# Altium footprint library Terminal_Blocks_Rising Case Clamp PCB_5mm.PcbLib: 8 footprints
Each footprint in its own frame and in the unit in brackets; x right, y up, seen from the top. Pads: shape width x height; smd on the part's side, far side on the other; paste and mask are expansions set on the pad; w line width, h text height; cw(c..) or ccw(c..) is an arc to the next point about the centre after c.
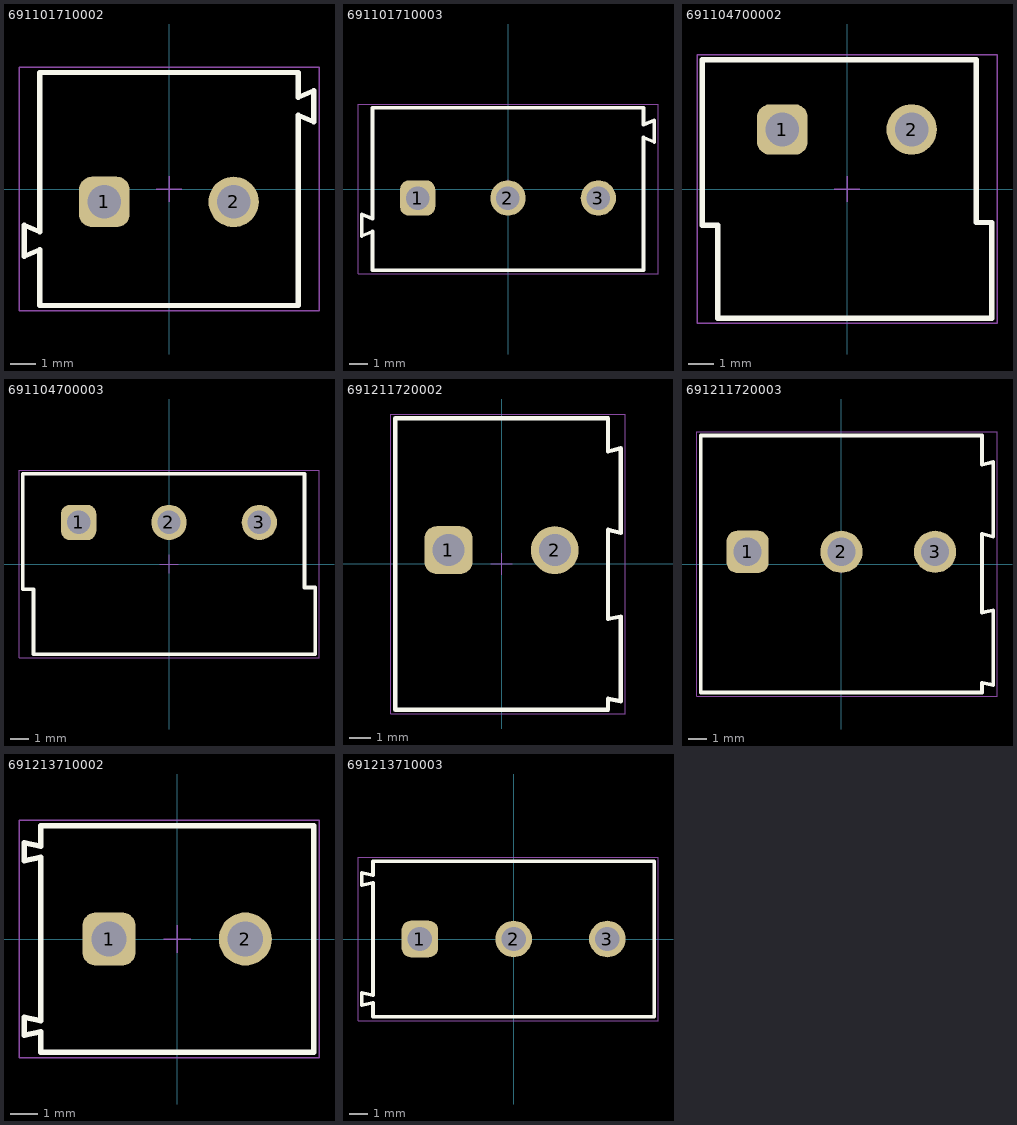
[diagram p0: the footprints below, top view; thin cyan lines are the x and y axes]

## 691101710002 [mm] "5,00mm - modular - blue - Horizontal entry with pressure clamp - 12,6mm height - 02p"
height 12.6
pads (2):
  rrect50% 1.95x1.95 hole 1.3: 1(-2.5,-0.5)
  round 1.95 hole 1.3: 2(2.5,-0.5)
Top Overlay:
  lines w0.2: -5,-2.35 -5.6,-2.6 -5.6,-1.4 -5,-1.65 -5,4.5 5,4.5 5,3.55 5.6,3.8 5.6,2.6 5,2.85 5,-4.5 -5,-4.5 -5,-2.35
Top Designator:
  text ".Designator" at -7.498,-0.5 h1.5
Top Component Outline:
  lines w0.1: -5,-2.35 -5.6,-2.6 -5.6,-1.4 -5,-1.65 -5,4.5 5,4.5 5,3.55 5.6,3.8 5.6,2.6 5,2.85 5,-4.5 -5,-4.5 -5,-2.35
Top 3D Body:
  lines w0.1: -5,-2.35 -5.6,-2.6 -5.6,-1.4 -5,-1.65 -5,4.5 5,4.5 5,3.55 5.6,3.8 5.6,2.6 5,2.85 5,-4.5 -5,-4.5 -5,-2.35
Top Courtyard:
  lines w0.05: -5.8,-4.7 -5.8,4.7 5.8,4.7 5.8,-4.7 -5.8,-4.7
Top Component Center:
  lines w0.05: -0.5,0 0.5,0 ; 0,-0.5 0,0.5
3D body "691101710002.stp": height 12.65, standoff -3.75, extent -5.6,-4.5 5.6,4.5

## 691101710003 [mm] "5,00mm - modular - blue - Horizontal entry with pressure clamp - 12,6mm height - 03p"
height 12.6
pads (3):
  rrect50% 1.95x1.95 hole 1.3: 1(-5,-0.5)
  round 1.95 hole 1.3: 2(0,-0.5) 3(5,-0.5)
Top Overlay:
  lines w0.2: -7.5,-2.35 -8.1,-2.6 -8.1,-1.4 -7.5,-1.65 -7.5,4.5 7.5,4.5 7.5,3.55 8.1,3.8 8.1,2.6 7.5,2.85 7.5,-4.5 -7.5,-4.5 -7.5,-2.35
Top Designator:
  text ".Designator" at -7.498,-0.5 h1.5
Top Component Outline:
  lines w0.1: -7.5,-2.35 -8.1,-2.6 -8.1,-1.4 -7.5,-1.65 -7.5,4.5 7.5,4.5 7.5,3.55 8.1,3.8 8.1,2.6 7.5,2.85 7.5,-4.5 -7.5,-4.5 -7.5,-2.35
Top 3D Body:
  lines w0.1: -7.5,-2.35 -8.1,-2.6 -8.1,-1.4 -7.5,-1.65 -7.5,4.5 7.5,4.5 7.5,3.55 8.1,3.8 8.1,2.6 7.5,2.85 7.5,-4.5 -7.5,-4.5 -7.5,-2.35
Top Courtyard:
  lines w0.05: -8.3,-4.7 8.3,-4.7 8.3,4.7 -8.3,4.7 -8.3,-4.7
Top Component Center:
  lines w0.05: -0.5,0 0.5,0 ; 0,-0.5 0,0.5
3D body "691101710003.stp": height 12.65, standoff -3.75, extent -8.1,-4.5 8.1,4.5

## 691104700002 [mm] ",00mm - modular - blue - Vertical wire entry - Pressure clamp - 02p"
height 10
pads (2):
  rrect50% 1.95x1.95 hole 1.3: 1(-2.5,2.3)
  round 1.95 hole 1.3: 2(2.5,2.3)
Top Overlay:
  lines w0.2: -5.6,-1.4 -5.6,5 5,5 5,-1.3 5.6,-1.3 5.6,-5 -5,-5 -5,-1.4 -5.6,-1.4
Top Designator:
  text ".Designator" at -7.498,-0.5 h1.5
Top Component Outline:
  lines w0.1: -5.6,-1.4 -5,-1.4 -5,-5 5.6,-5 5.6,-1.3 5,-1.3 5,5 -5.6,5 -5.6,-1.4
Top 3D Body:
  lines w0.1: -5.6,-1.4 -5.6,5 5,5 5,-1.3 5.6,-1.3 5.6,-5 -5,-5 -5,-1.4 -5.6,-1.4
Top Courtyard:
  lines w0.05: -5.8,-5.2 5.8,-5.2 5.8,5.2 -5.8,5.2 -5.8,-5.2
Top Component Center:
  lines w0.05: -0.5,0 0.5,0 ; 0,-0.5 0,0.5
3D body "691104700002.stp": height 7.55, standoff -3.75, extent -5.6,-5 5.6,5

## 691104700003 [mm] ",00mm - modular - blue - Vertical wire entry - Pressure clamp - 03p"
height 10
pads (3):
  rrect50% 1.95x1.95 hole 1.3: 1(-5,2.3)
  round 1.95 hole 1.3: 2(0,2.3) 3(5,2.3)
Top Overlay:
  lines w0.2: -8.1,-1.4 -8.1,5 7.5,5 7.5,-1.3 8.1,-1.3 8.1,-5 -7.5,-5 -7.5,-1.4 -8.1,-1.4
Top Designator:
  text ".Designator" at -7.498,-0.5 h1.5
Top Component Outline:
  lines w0.1: -8.1,-1.4 -7.5,-1.4 -7.5,-5 8.1,-5 8.1,-1.3 7.5,-1.3 7.5,5 -8.1,5 -8.1,-1.4
Top 3D Body:
  lines w0.1: -8.1,-1.4 -8.1,5 7.5,5 7.5,-1.3 8.1,-1.3 8.1,-5 -7.5,-5 -7.5,-1.4 -8.1,-1.4
Top Courtyard:
  lines w0.05: -8.3,-5.2 -8.3,5.2 8.3,5.2 8.3,-5.2 -8.3,-5.2
Top Component Center:
  lines w0.05: -0.5,0 0.5,0 ; 0,-0.5 0,0.5
3D body "691104700003.stp": height 7.55, standoff -3.75, extent -8.1,-5 8.1,5

## 691211720002 [mm] "5,00mm - modular - green -45¡ã entry with rising cage clamp - 02p"
height 15.5
pads (2):
  rrect50% 2.25x2.25 hole 1.5: 1(-2.5,0.65)
  round 2.25 hole 1.5: 2(2.5,0.65)
Top Overlay:
  lines w0.2: -5,-6.85 5,-6.85 5,-6.33 5.6,-6.45 5.6,-2.47 5,-2.59 5,1.61 5.6,1.46 5.6,5.44 5,5.29 5,6.85 -5,6.85 -5,-6.85
Top Designator:
  text ".Designator" at -7.498,-0.5 h1.5
Top Component Outline:
  lines w0.1: -5,-6.85 -5,6.85 5,6.85 5,5.29 5.6,5.44 5.6,1.46 5,1.61 5,-2.59 5.6,-2.47 5.6,-6.45 5,-6.33 5,-6.85 -5,-6.85
Top 3D Body:
  lines w0.1: -5,-6.85 5,-6.85 5,-6.33 5.6,-6.45 5.6,-2.47 5,-2.59 5,1.61 5.6,1.46 5.6,5.44 5,5.29 5,6.85 -5,6.85 -5,-6.85
Top Courtyard:
  lines w0.05: -5.2,-7.05 -5.2,7.05 5.8,7.05 5.8,-7.05 -5.2,-7.05
Top Component Center:
  lines w0.05: -0.5,0 0.5,0 ; 0,-0.5 0,0.5
3D body "691211720002.stp": height 15.72, standoff -3.38, extent -5,-6.85 5.6,6.85

## 691211720003 [mm] "5,00mm - modular - green -45¡ã entry with rising cage clamp - 03p"
height 15.5
pads (3):
  rrect50% 2.25x2.25 hole 1.5: 1(-5,0.65)
  round 2.25 hole 1.5: 2(0,0.65) 3(5,0.65)
Top Overlay:
  lines w0.2: -7.5,-6.85 7.5,-6.85 7.5,-6.33 8.1,-6.45 8.1,-2.47 7.5,-2.59 7.5,1.61 8.1,1.46 8.1,5.44 7.5,5.29 7.5,6.85 -7.5,6.85 -7.5,-6.85
Top Designator:
  text ".Designator" at -7.498,-0.5 h1.5
Top Component Outline:
  lines w0.1: -7.5,-6.85 -7.5,6.85 7.5,6.85 7.5,5.29 8.1,5.44 8.1,1.46 7.5,1.61 7.5,-2.59 8.1,-2.47 8.1,-6.45 7.5,-6.33 7.5,-6.85 -7.5,-6.85
Top 3D Body:
  lines w0.1: -7.5,-6.85 7.5,-6.85 7.5,-6.33 8.1,-6.45 8.1,-2.47 7.5,-2.59 7.5,1.61 8.1,1.46 8.1,5.44 7.5,5.29 7.5,6.85 -7.5,6.85 -7.5,-6.85
Top Courtyard:
  lines w0.05: -7.7,-7.05 -7.7,7.05 8.3,7.05 8.3,-7.05 -7.7,-7.05
Top Component Center:
  lines w0.05: -0.5,0 0.5,0 ; 0,-0.5 0,0.5
3D body "691211720003.stp": height 15.72, standoff -3.38, extent -7.5,-6.85 8.1,6.85

## 691213710002 [mm] "5,00mm - modular - green - Horizontal entry with rising cage clamp -  10,0mm height - 02p"
height 10
pads (2):
  rrect50% 1.95x1.95 hole 1.3: 1(-2.5,0)
  round 1.95 hole 1.3: 2(2.5,0)
Top Overlay:
  lines w0.2: -5.6,-3.525 -5.6,-2.875 -5,-3 -5,3 -5.6,2.875 -5.6,3.525 -5,3.4 -5,4.15 5,4.15 5,-4.15 -5,-4.15 -5,-3.4 -5.6,-3.525
Top Designator:
  text ".Designator" at -7.498,-0.5 h1.5
Top Component Outline:
  lines w0.1: -5.6,-3.525 -5,-3.4 -5,-4.15 5,-4.15 5,4.15 -5,4.15 -5,3.4 -5.6,3.525 -5.6,2.875 -5,3 -5,-3 -5.6,-2.875 -5.6,-3.525
Top 3D Body:
  lines w0.1: -5.6,-3.525 -5.6,-2.875 -5,-3 -5,3 -5.6,2.875 -5.6,3.525 -5,3.4 -5,4.15 5,4.15 5,-4.15 -5,-4.15 -5,-3.4 -5.6,-3.525
Top Courtyard:
  lines w0.05: -5.8,-4.35 5.2,-4.35 5.2,4.35 -5.8,4.35 -5.8,-4.35
Top Component Center:
  lines w0.05: -0.5,0 0.5,0 ; 0,-0.5 0,0.5
3D body "691213710002.stp": height 10.05, standoff -3.75, extent -5.6,-4.15 5,4.15

## 691213710003 [mm] "5,00mm - modular - green - Horizontal entry with rising cage clamp -  10,0mm height - 03p"
height 10
pads (3):
  rrect50% 1.95x1.95 hole 1.3: 1(-5,0)
  round 1.95 hole 1.3: 2(0,0) 3(5,0)
Top Overlay:
  lines w0.2: -8.1,-3.525 -8.1,-2.875 -7.5,-3 -7.5,3 -8.1,2.875 -8.1,3.525 -7.5,3.4 -7.5,4.15 7.5,4.15 7.5,-4.15 -7.5,-4.15 -7.5,-3.4 -8.1,-3.525
Top Designator:
  text ".Designator" at -7.498,-0.5 h1.5
Top Component Outline:
  lines w0.1: -8.1,-3.525 -7.5,-3.4 -7.5,-4.15 7.5,-4.15 7.5,4.15 -7.5,4.15 -7.5,3.4 -8.1,3.525 -8.1,2.875 -7.5,3 -7.5,-3 -8.1,-2.875 -8.1,-3.525
Top 3D Body:
  lines w0.1: -8.1,-3.525 -8.1,-2.875 -7.5,-3 -7.5,3 -8.1,2.875 -8.1,3.525 -7.5,3.4 -7.5,4.15 7.5,4.15 7.5,-4.15 -7.5,-4.15 -7.5,-3.4 -8.1,-3.525
Top Courtyard:
  lines w0.05: -8.3,-4.35 7.7,-4.35 7.7,4.35 -8.3,4.35 -8.3,-4.35
Top Component Center:
  lines w0.05: -0.5,0 0.5,0 ; 0,-0.5 0,0.5
3D body "691213710003.stp": height 10.05, standoff -3.75, extent -8.1,-4.15 7.5,4.15